# Altium footprint library PCB1.PcbLib: 53 footprints (part 3 of 4)
Each footprint in its own frame and in the unit in brackets; x right, y up, seen from the top. Pads: shape width x height; smd on the part's side, far side on the other; paste and mask are expansions set on the pad; w line width, h text height; cw(c..) or ccw(c..) is an arc to the next point about the centre after c.
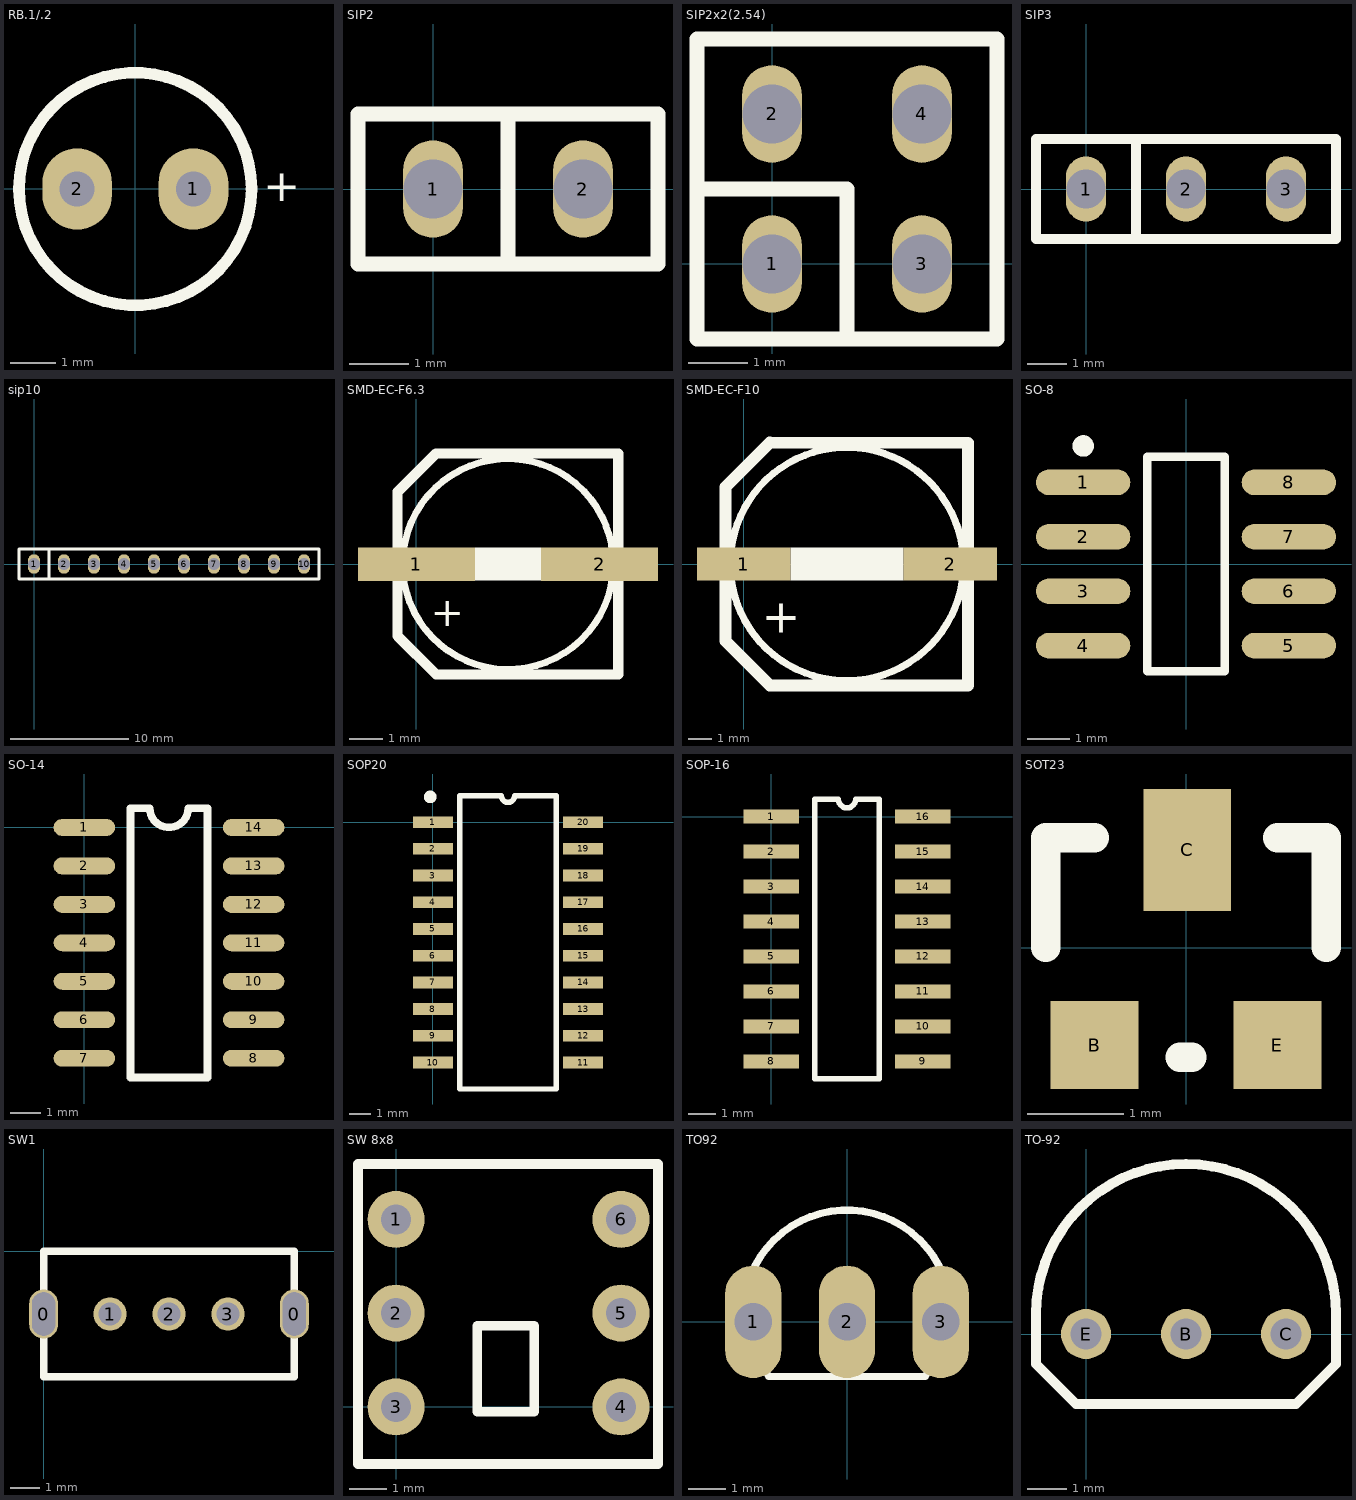
[diagram p2: the footprints below, top view; thin cyan lines are the x and y axes]

## RB.1/.2 [mil]
pads (2):
  oval 60x70 hole 30: 1(50,0) 2(-50,0)
Top Overlay:
  circle w10: c0,0 r100
  text "+" at 110,-20 h48

## SIP2 [mil]
pads (2):
  oval 40x65 hole 39.37: 1(0,0) 2(100,0)
Top Overlay:
  lines w10: 50,-50 50,50 ; -50,-50 -50,50 150,50 150,-50 -50,-50

## SIP2x2(2.54) [mil]
pads (4):
  oval 40x65 hole 39.37: 1(0,0) 2(0,100) 3(100,0) 4(100,100)
Top Overlay:
  lines w10: -50,50 50,50 50,-50 ; -50,-50 -50,150 150,150 150,-50 -50,-50

## SIP3 [mil]
pads (3):
  oval 40x65 hole 39.37: 1(0,0) 2(100,0) 3(200,0)
Top Overlay:
  lines w10: 50,-50 50,50 ; -50,-50 -50,50 250,50 250,-50 -50,-50

## sip10 [mil]
pads (10):
  oval 40x65 hole 39.37: 1(0,0) 2(100,0) 3(200,0) 4(300,0) 5(400,0) 6(500,0) 7(600,0) 8(700,0) 9(800,0) 10(900,0)
Top Overlay:
  lines w10: 50,-50 50,50 ; -50,-50 950,-50 950,50 -50,50 -50,-50

## SMD-EC-F6.3 [mm]
pads (2):
  rect 3.5x1 smd: 1(0,0) 2(5.475,0)
Top Overlay:
  rectangle: 1.746,-0.496 3.73,0.5
  lines w0.203: 5.667,1.156 ccw(c2.736,0.002) 5.667,1.154
  lines w0.305: 0.587,-3.303 -0.564,-2.152 -0.564,2.163 0.587,3.314 ; 0.589,-3.305 6.036,-3.305 6.036,3.309 0.592,3.309
  text "+" at 0.43,-2.164 h1.5

## SMD-EC-F10 [mm]
pads (2):
  rect 4x1.4 smd: 1(0,0) 2(8.86,0)
Top Overlay:
  circle w0.305: c4.422,0 r5
  rectangle: 2.006,-0.701 6.849,0.707
  lines w0.508: 1.12,5.203 -0.778,3.306 -0.778,-3.304 1.12,-5.201 9.62,-5.201 9.62,5.2 1.123,5.2
  text "+" at 0.78,-3.44 h2.5

## SO-8 [mm] "SOIC, 8-Leads, Body 4.9x3.9mm, Pitch 1.27mm, IPC Medium Density"
height 1.75
pads (8):
  oval 2.2x0.6 smd: 1(-2.4,1.905) 2(-2.4,0.635) 3(-2.4,-0.635) 4(-2.4,-1.905) 5(2.4,-1.905) 6(2.4,-0.635) 7(2.4,0.635) 8(2.4,1.905)
Top Overlay:
  circle w0.25: c-2.4,2.755 r0.125
  lines w0.2: -0.9,-2.5 -0.9,2.5 0.9,2.5 0.9,-2.5 -0.9,-2.5

## SO-14 [mil]
pads (14):
  oval 80x22 smd: 1(0,0) 2(0,-50) 3(0,-100) 4(0,-150) 5(0,-200) 6(0,-250) 7(0,-300) 8(220,-300) 9(220,-250) 10(220,-200) 11(220,-150) 12(220,-100) 13(220,-50) 14(220,0)
Top Overlay:
  lines w10: 60,-325 160,-325 160,25 135,25 cw(c110,25) 85,25 60,25 60,-325

## SOP20 [mil]
pads (20):
  rect 75x22 smd: 1(0,0) 2(0,-50) 3(0,-100) 4(0,-150) 5(0,-200) 6(0,-250) 7(0,-300) 8(0,-350) 9(0,-400) 10(0,-450) 11(281.34,-450) 12(281.34,-400) 13(281.34,-350) 14(281.34,-300) 15(281.34,-250) 16(281.34,-200) 17(281.34,-150) 18(281.34,-100) 19(281.34,-50) 20(281.34,0)
Top Overlay:
  circle w11.81: c-5,47.24 r5.91
  lines w9.84: 50.12,-499.61 231.22,-499.61 231.22,49.61 153.17,49.61 cw(c140.67,49.61) 128.17,49.61 50.12,49.61 50.12,-499.61

## SOP-16 [mm]
pads (16):
  rect 2x0.5 smd: 1(0,0) 2(0,-1.27) 3(0,-2.54) 4(0,-3.81) 5(0,-5.08) 6(0,-6.35) 7(0,-7.62) 8(0,-8.89) 9(5.5,-8.89) 10(5.5,-7.62) 11(5.5,-6.35) 12(5.5,-5.08) 13(5.5,-3.81) 14(5.5,-2.54) 15(5.5,-1.27) 16(5.5,0)
Top Overlay:
  lines w0.2: 2.432,0.635 ccw(c2.75,0.635) 3.067,0.635 3.915,0.635 3.915,-9.525 1.585,-9.525 1.585,0.635 2.433,0.635

## SOT23 [mil]
pads (3):
  rect 36x36 smd: B(-37.5,-40) E(37.5,-40)
  rect 36x50 smd: C(0.5,40)
Top Overlay:
  lines w12: -57.5,0 -57.5,45 -37.5,45 ; -2.5,-45 2.5,-45 ; 37.5,45 57.5,45 57.5,0

## SW1 [mil]
pads (5):
  oval 39.37x66.93 hole 31.5 slot 59.06 at 90 deg: 0(0,-85) 0(340,-85)
  round 45 hole 31.5: 1(90,-85) 2(170,-85) 3(250,-85)
Top Overlay:
  lines w10: 0,-170 340,-170 340,0 0,0 0,-170

## SW 8x8 [mm]
pads (6):
  round 1.524 hole 0.8: 1(0,5) 2(0,2.5) 3(0,0) 4(6,0) 5(6,2.5) 6(6,5)
Top Overlay:
  lines w0.254: -1.016,-1.524 6.985,-1.524 6.985,6.477 -1.016,6.477 -1.016,-1.524 ; 2.159,-0.127 3.683,-0.127 3.683,2.159 2.159,2.159 2.159,-0.127

## TO92 [mil]
pads (3):
  oval 60x120 hole 40: 1(-100,0) 2(0,0) 3(100,0)
Top Overlay:
  lines w7.87: -102.76,49.85 cw(c0,8.33) 102.76,49.85 ; -89.08,-49.71 -83.33,-58.33 83.33,-58.33 89.08,-49.71

## TO-92 [mm]
pads (3):
  round 1.27 hole 0.8: B(2.54,0) C(5.08,0) E(0,0)
Top Overlay:
  lines w0.254: -1.27,-0.762 -1.27,0.508 cw(c2.54,0.508) 6.35,0.508 6.35,-0.762 5.334,-1.778 -0.254,-1.778 -1.27,-0.762